# Altium footprint library 贴片电容.PcbLib: 24 footprints (part 1 of 2)
Each footprint in its own frame and in the unit in brackets; x right, y up, seen from the top. Pads: shape width x height; smd on the part's side, far side on the other; paste and mask are expansions set on the pad; w line width, h text height; cw(c..) or ccw(c..) is an arc to the next point about the centre after c.
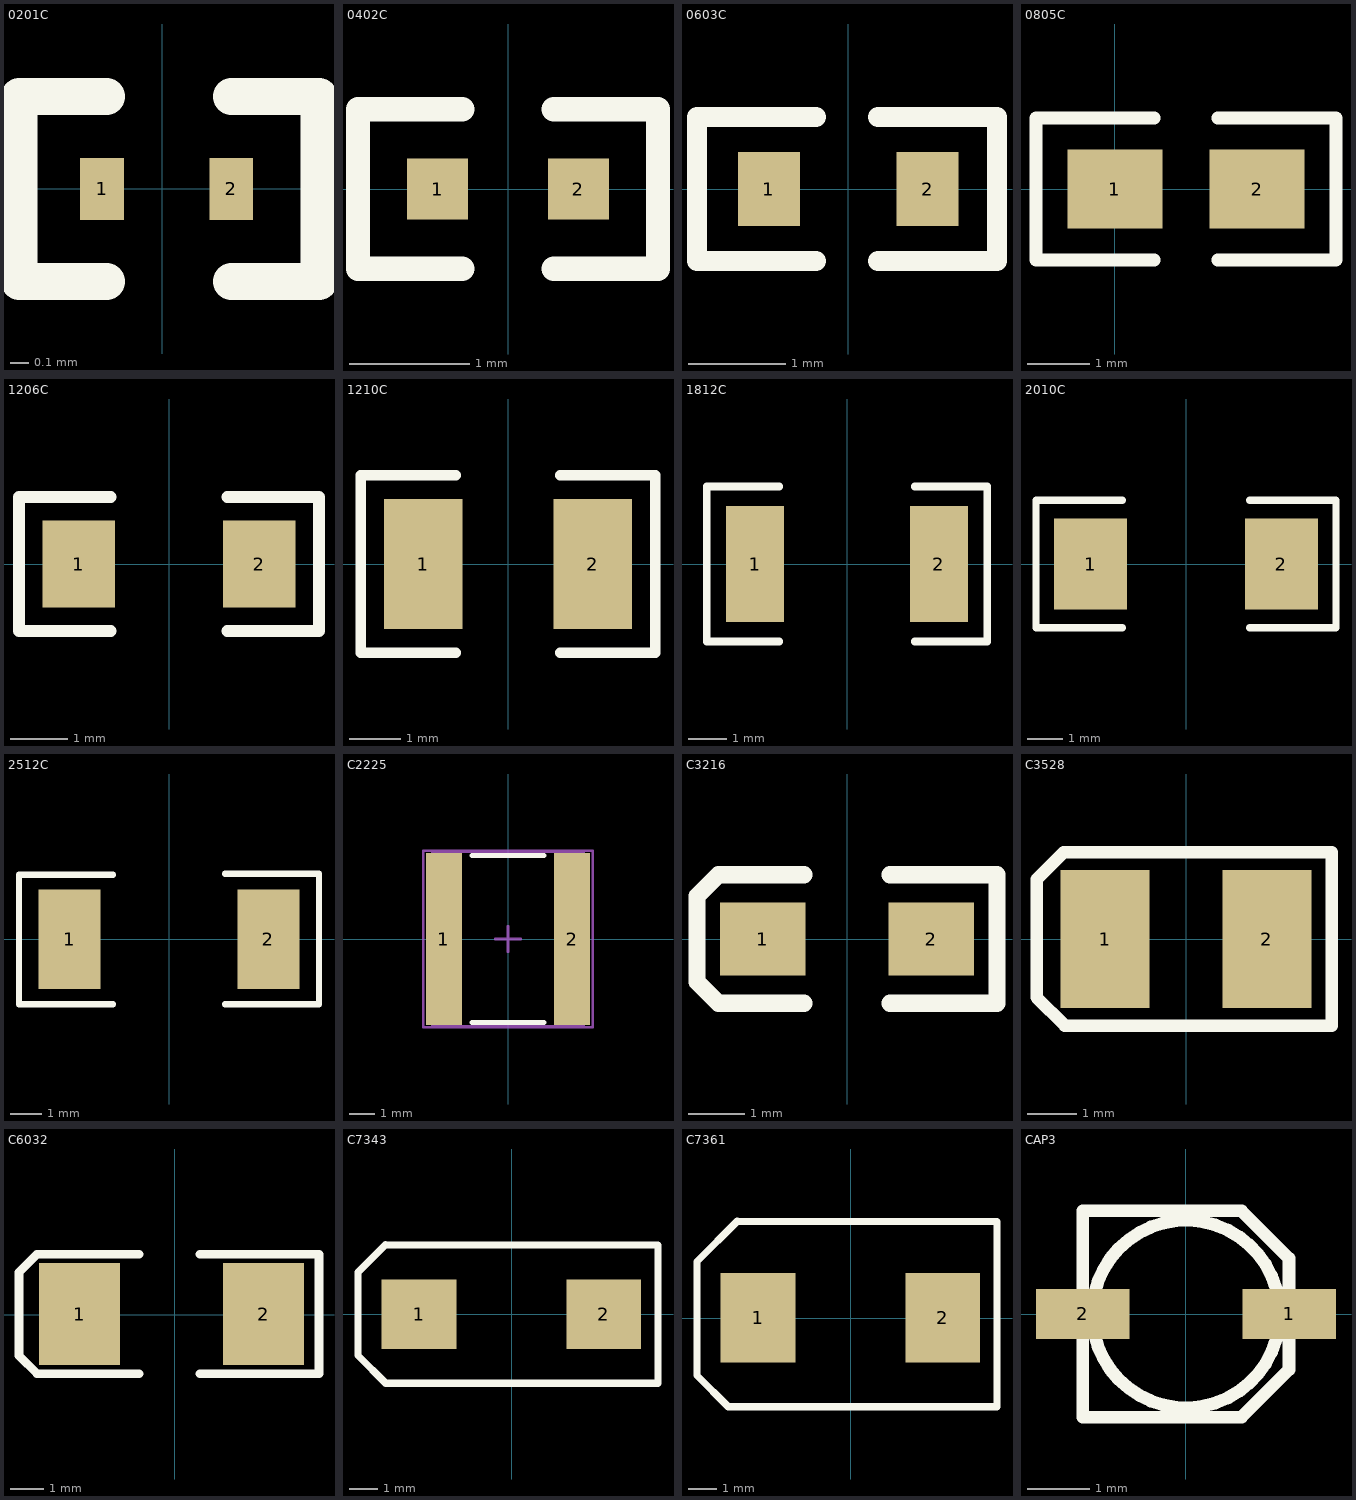
[diagram p0: the footprints below, top view; thin cyan lines are the x and y axes]

## 0201C [mil] "0.6mmx0.3mm （蒜米工坊）"
height 5.91
pads (2):
  rect 9.5x13.5 smd: 1(-13,0) 2(15,0)
Top Overlay:
  lines w7.99: -12,-20 -31,-20 -31,20 -12,20 ; 15,-20 34,-20 34,20 15,20
3D body "RESC0603(0201).STEP": height 9.84, standoff -0.39, extent -10.81,-5.9 12.82,5.91

## 0402C [mil] "1mmx0.5mm （蒜米工坊）"
height 9.84
pads (2):
  rect 20x20 smd: 1(-23,0) 2(23,0)
Top Overlay:
  lines w8: -15,-26 -49,-26 -49,26 -15,26 ; 15,-26 49,-26 49,26 15,26
3D body "R0402.STEP": height 13.78, standoff 0, extent -19.68,-9.84 19.69,9.85

## 0603C [mil] "1.6mmx0.8mm（蒜米工坊）"
height 19.68
pads (2):
  rect 25x30 smd: 1(-32,0) 2(32,0)
Top Overlay:
  lines w8: -13,-29 -61,-29 -61,29 -13,29 ; 12,-29 60,-29 60,29 12,29
3D body "R0603.STEP": height 17.72, standoff 0, extent -32.49,-15.74 30.5,15.75

## 0805C [mil] "2.0mmx1.2mm（蒜米工坊）"
height 19.68
pads (2):
  rect 60x50 smd: 1(0,0) 2(90,0)
Top Overlay:
  lines w8: 25,-45 -50,-45 -50,45 25,45 ; 65,-45 140,-45 140,45 65,45
3D body "R0805.STEP": height 21.65, standoff 0, extent 4.64,-24.8 83.37,24.81

## 1206C [mil] "3.2mmx1.6mm（蒜米工坊）"
height 19.68
pads (2):
  rect 50x60 smd: 1(-62,0) 2(62,0)
Top Overlay:
  lines w8: -40,-46 -103,-46 -103,46 -40,46 ; 40,-46 103,-46 103,46 40,46
3D body "R1206.STEP": height 23.62, standoff 0, extent -63.98,-32.49 62,30.51

## 1210C [mil] "3.2mmx2.5mm（蒜米工坊）"
height 19.68
pads (2):
  rect 60x100 smd: 1(-65,0) 2(65,0)
Top Overlay:
  lines w8: -40,-68 -113,-68 -113,68 -40,68 ; 40,-68 113,-68 113,68 40,68
3D body "RESC3225(1210).STEP": height 23.62, standoff 0, extent -62.99,-50.21 63,48.22

## 1812C [mil] "4.5mmx3.2mm（蒜米工坊）"
height 24.02
pads (2):
  rect 60x120 smd: 1(-95,0) 2(95,0)
Top Overlay:
  lines w8: -70,-80 -145,-80 -145,80 -70,80 ; 70,-80 145,-80 145,80 70,80
3D body "RESC4532(1812).STEP": height 27.56, standoff 0, extent -90.58,-62.99 86.59,63

## 2010C [mil] "5mmx2.5mm（蒜米工坊）"
height 23.62
pads (2):
  rect 80x100 smd: 1(-105,0) 2(105,0)
Top Overlay:
  lines w8: -70,-70 -165,-70 -165,70 -70,70 ; 70,-70 165,-70 165,70 70,70
3D body "RESC5025(2010).STEP": height 25.59, standoff 0, extent -97.42,-50.21 99.43,48.22

## 2512C [mm] "6.5mmx3.2mm（蒜米工坊）"
height 0.6
pads (2):
  rect 2x3.2 smd: 1(-3.2,0) 2(3.2,0)
Top Overlay:
  lines w0.203: -1.803,-2.083 -4.826,-2.083 -4.826,2.083 -1.803,2.083 ; 1.803,-2.083 4.826,-2.083 4.826,2.108 1.803,2.108
3D body "RESC6432(2512).STEP": height 0.7, standoff 0, extent -3.2,-1.625 3.2,1.575

## C2225 [mm] "5.7mmx6.4mm（蒜米工坊）"
height 1.4
pads (2):
  rect 1.4x6.7 smd: 1(-2.5,0) 2(2.5,0)
Top Overlay:
  lines w0.2: -1.4,-3.25 1.4,-3.25 ; -1.4,3.25 1.4,3.25
Mechanical 13:
  lines w0.1: -2.95,-3.4 -2.95,3.4 2.95,3.4 2.95,-3.4 -2.95,-3.4
Mechanical 15:
  lines w0.1: -0.5,0 0.5,0 ; 0,-0.5 0,0.5 ; -3.3,-3.45 -3.3,3.45 3.3,3.45 3.3,-3.45 -3.3,-3.45
3D body "User Library-SMD CAPACITOR.STEP": height 1, standoff 0, extent -2.8,-3.023 2.8,3.277

## C3216 [mil] "A型/1206 3.2mmx1.6mm（蒜米工坊）"
height 62.99
pads (2):
  rect 60x51.18 smd: 1(-59,0) 2(59,0)
Top Overlay:
  lines w12: -30,-45 -90,-45 -105,-30 -105,30 -90,45 -30,45 ; 30,-45 105,-45 105,45 30,45
3D body "TAJ-A.STEP": height 62.99, standoff 0, extent -63,-31 62.99,31.99

## C3528 [mil] "B型  3.5mmx2.8mm （蒜米工坊）"
height 74.8
pads (2):
  rect 70.87x110 smd: 1(-64.5,0) 2(64.5,0)
Top Overlay:
  lines w10: -119,-46.5 -119,47.5 -97.5,69 116,69 116,-69 -96.5,-69 -119,-46.5
3D body "TAJ-B.STEP": height 74.8, standoff 0, extent -68.9,-55.11 68.9,55.12

## C6032 [mil] "C型  6.0mmx3.2mm （蒜米工坊）"
height 98.43
pads (2):
  rect 95x120 smd: 1(-112,1) 2(104,1)
Top Overlay:
  lines w10: -42,-69 -156,-69 -162,-69 -183,-48 -183,50 -163,70 -162,71 -42,71 ; 29,-69 169,-69 169,71 29,71
3D body "TAJ-C.STEP": height 102.36, standoff 0, extent -121.11,-61.99 115.11,63.99

## C7343 [mm] "D型  7.3mmx4.3mm（蒜米工坊）"
height 2.8
pads (2):
  rect 2.6x2.4 smd: 1(-3.202,0.007) 2(3.198,0.007)
Top Overlay:
  lines w0.254: -4.369,-2.388 5.08,-2.388 5.08,2.388 ; -4.362,-2.388 -5.325,-1.425 -5.325,1.457 -4.369,2.413 5.08,2.406
3D body: height 0.3, standoff 0, extent -3.487,-0.869 -3.392,0.82
3D body: height 0.3, standoff 0, extent 3.308,-0.855 3.512,0.915
3D body "TAJ-D.STEP": height 2.9, standoff 0, extent -3.65,-2.124 3.65,2.176

## C7361 [mm] "D型 7.5mmx6.3mm （蒜米工坊）"
pads (2):
  rect 2.6x3.1 smd: 1(-3.202,0.007) 2(3.198,0.007)
Top Overlay:
  lines w0.254: -5.325,-1.99 -4.242,-3.073 5.08,-3.073 5.08,3.352 -3.931,3.359 -5.325,1.965 -5.325,-1.99
3D body "capcp7361x38.step": height 3.45, standoff 0, extent -3.75,-3.048 3.75,3.252

## CAP3 [mm] "直径3mm（蒜米工坊）"
height 5.4
pads (2):
  rect 1.5x0.8 smd: 1(1.651,0) 2(-1.65,0)
Top Overlay:
  circle w0.203: c0,0 r1.5
  lines w0.203: -1.65,-1.65 0.89,-1.65 1.65,-0.89 1.65,0.89 0.89,1.65 -1.65,1.65 -1.65,-1.65
3D body "CM A(3X5.4).STEP": height 5.4, standoff -0.01, extent -1.9,-1.65 1.9,1.65